# Altium integrated library STGP7NC60HD.IntLib: 1 symbol
Pins are listed as number, name and electrical type; pins without a type are passive.

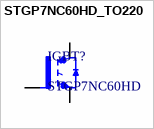
[diagram p0: symbol STGP7NC60HD_TO220]

## STGP7NC60HD_TO220
designator IGBT?, comment STGP7NC60HD
IGBT 600V 25A 80W TO-220; MF: Infineon Technologies; Price: None; Availability: Unavailable; Package: D2PAK Infineon; SnapEDA_Link: https://www.snapeda.com/parts/IRGS4607DPBF/Infineon%20Technologies/view-part/666171/?ref=snap; MP: STGP7NC60HD; Value: *
pins: 1 G, 2 C, 3 E